# Altium footprint library ArcadeJoystick.PcbLib: 10 footprints
Each footprint in its own frame and in the unit in brackets; x right, y up, seen from the top. Pads: shape width x height; smd on the part's side, far side on the other; paste and mask are expansions set on the pad; w line width, h text height; cw(c..) or ccw(c..) is an arc to the next point about the centre after c.
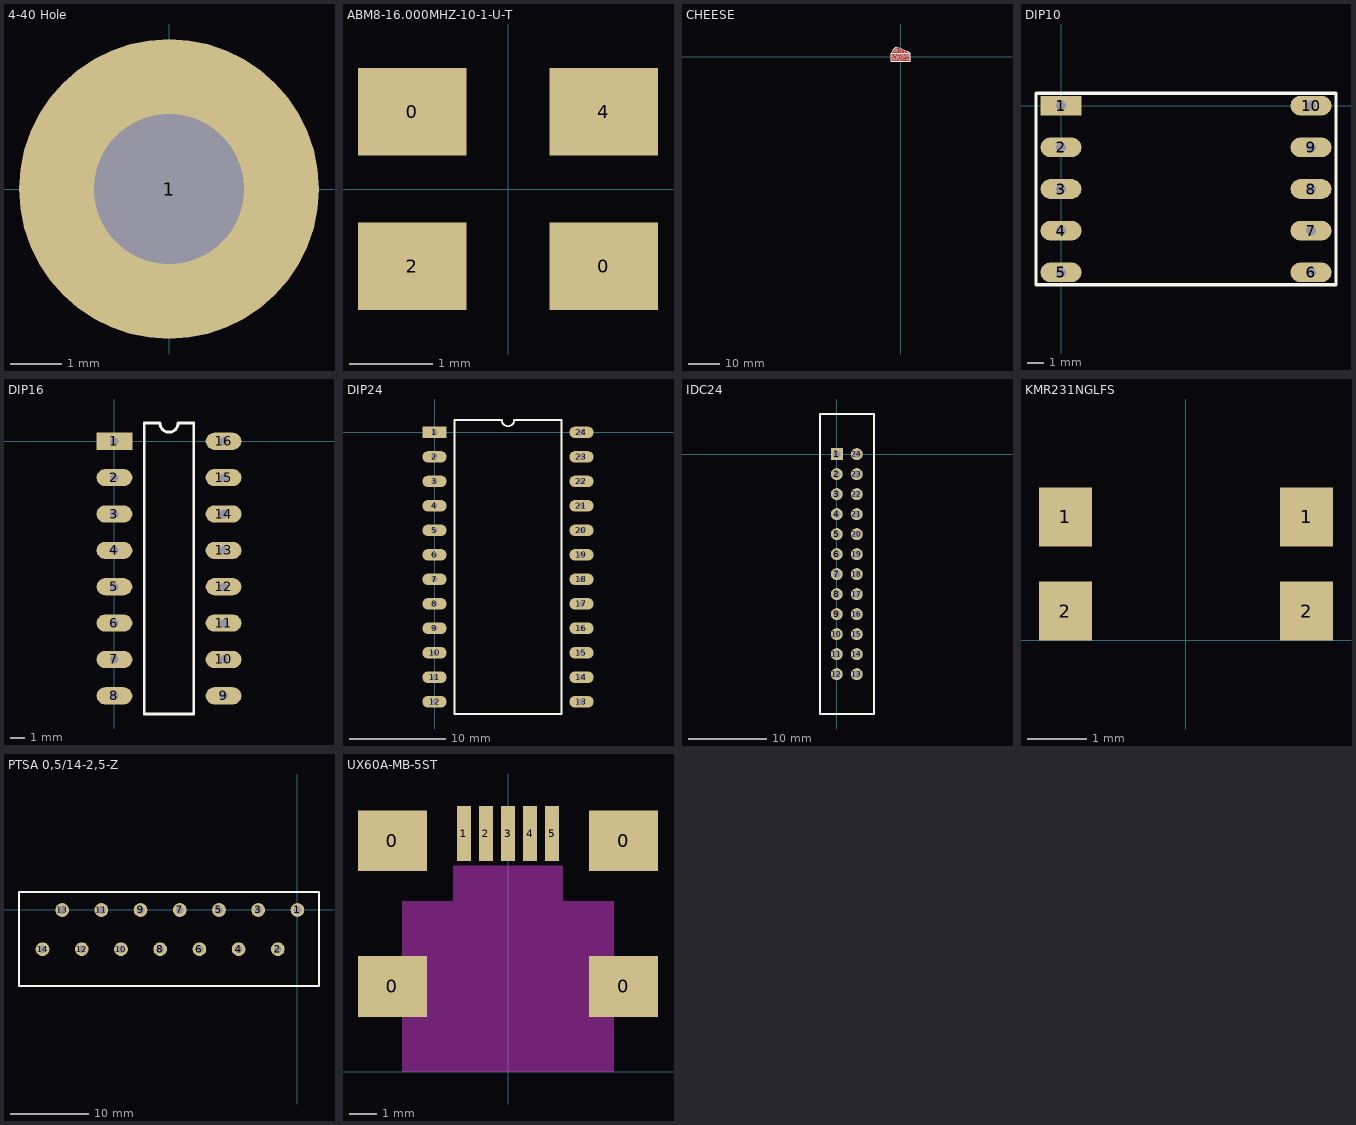
[diagram p0: the footprints below, top view; thin cyan lines are the x and y axes]

## 4-40 Hole [mil]
pads (1):
  round 232 hole 116 unplated: 1(0,0)

## ABM8-16.000MHZ-10-1-U-T [mm]
height 0.8
pads (4):
  rect 1.3x1.05 smd: 0(-1.15,0.925) 0(1.15,-0.925) 2(-1.15,-0.925) 4(1.15,0.925)

## CHEESE [mm]
pads (21):
  round 0.4 hole 0.4: 0(-2.515,0.152) 0(-2.083,1.626) 0(-1.448,-0.94) 0(-0.991,0.635) 0(-0.381,2.108) 0(-0.305,0.61) 0(-0.127,0.025) 0(1.016,-0.914) 0(1.067,-0.279) 0(1.219,1.575)
  round 0.8 hole 0.8: 0(-2.184,-0.66) 0(0.737,0.457)
  round 0.7 hole 0.7: 0(-1.803,0.508) 0(2.134,-0.711)
  round 1 hole 1: 0(-1.295,2.057) 0(-1.016,-0.254) 0(2.362,0.457)
  round 0.5 hole 0.5: 0(-0.279,-0.914) 0(1.524,0.178)
  round 0.6 hole 0.6: 0(0.229,1.702) 0(0.406,-0.533)
Top Layer:
  region: -2.976,1.17 -2.758,1.613 -2.435,2.097 -2.051,2.534 -1.614,2.917 -1.44,3.033 -1.425,3.012 -0.722,2.774 1.221,2.018 3.129,1.179 3.124,1.168
  region: -2.972,-1.372 -2.972,1.168 3.124,1.168 3.124,-1.372
Top Overlay:
  lines w0.254: -1.44,3.033 ccw(c1.092,-0.61) -2.972,1.168 ; -1.425,3.012 cw(c-17.069,-42.139) 3.124,1.168 ; -2.972,1.168 -2.972,-1.372 3.124,-1.372 3.124,1.168 ; -2.972,1.168 3.124,1.168

## DIP10 [mm]
pads (10):
  rect 2.5x1.2 hole 0.6: 1(0,0)
  oval 2.5x1.2 hole 0.6: 2(0,-2.54) 3(0,-5.08) 4(0,-7.62) 5(0,-10.16) 6(15.24,-10.16) 7(15.24,-7.62) 8(15.24,-5.08) 9(15.24,-2.54) 10(15.24,0)
Top Overlay:
  lines w0.2: -1.524,-10.922 16.764,-10.922 16.764,0.762 -1.524,0.762 -1.524,-10.922

## DIP16 [mm]
pads (16):
  rect 2.5x1.2 hole 0.6: 1(0,0)
  oval 2.5x1.2 hole 0.6: 2(0,-2.54) 3(0,-5.08) 4(0,-7.62) 5(0,-10.16) 6(0,-12.7) 7(0,-15.24) 8(0,-17.78) 9(7.62,-17.78) 10(7.62,-15.24) 11(7.62,-12.7) 12(7.62,-10.16) 13(7.62,-7.62) 14(7.62,-5.08) 15(7.62,-2.54) 16(7.62,0)
Top Overlay:
  lines w0.2: 2.085,-19.05 2.085,1.27 3.175,1.27 ccw(c3.81,1.27) 4.445,1.27 5.535,1.27 5.535,-19.05 2.085,-19.05

## DIP24 [mm]
pads (24):
  rect 2.5x1.2 hole 0.6: 1(0,0)
  oval 2.5x1.2 hole 0.6: 2(0,-2.54) 3(0,-5.08) 4(0,-7.62) 5(0,-10.16) 6(0,-12.7) 7(0,-15.24) 8(0,-17.78) 9(0,-20.32) 10(0,-22.86) 11(0,-25.4) 12(0,-27.94) 13(15.24,-27.94) 14(15.24,-25.4) 15(15.24,-22.86) 16(15.24,-20.32) 17(15.24,-17.78) 18(15.24,-15.24) 19(15.24,-12.7) 20(15.24,-10.16) 21(15.24,-7.62) 22(15.24,-5.08) 23(15.24,-2.54) 24(15.24,0)
Top Overlay:
  lines w0.2: 2.085,-29.21 2.085,1.27 6.985,1.27 ccw(c7.62,1.27) 8.255,1.27 13.155,1.27 13.155,-29.21 2.085,-29.21

## IDC24 [mil]
pads (24):
  rect 60x60 hole 36: 1(0,0)
  round 60 hole 36: 2(0,-100) 3(0,-200) 4(0,-300) 5(0,-400) 6(0,-500) 7(0,-600) 8(0,-700) 9(0,-800) 10(0,-900) 11(0,-1000) 12(0,-1100) 13(100,-1100) 14(100,-1000) 15(100,-900) 16(100,-800) 17(100,-700) 18(100,-600) 19(100,-500) 20(100,-400) 21(100,-300) 22(100,-200) 23(100,-100) 24(100,0)
Top Overlay:
  lines w10: -82.68,-1299.21 -82.68,200.79 185.04,200.79 185.04,-1299.21 -82.68,-1299.21

## KMR231NGLFS [mm] "Top Button Switch SMT"
height 1.9
pads (4):
  rect 0.9x1 smd: 1(-2.05,2.1) 1(2.05,2.1) 2(-2.05,0.5) 2(2.05,0.5)
3D body: height 1.9, standoff 0, extent -2,-0.1 2,2.7

## PTSA 0,5/14-2,5-Z [mm] "PCB termination blocks, offset pins, 2.5 mm   pitch,      color: green"
height 13.1
pads (14):
  round 1.75 hole 1: 1(0,0) 2(-2.5,-5) 3(-5,0) 4(-7.5,-5) 5(-10,0) 6(-12.5,-5) 7(-15,0) 8(-17.5,-5) 9(-20,0) 10(-22.5,-5) 11(-25,0) 12(-27.5,-5) 13(-30,0) 14(-32.5,-5)
Top Overlay:
  lines w0.254: -35.5,-9.7 -35.5,2.3 2.75,2.3 2.75,-9.7 -35.5,-9.7

## UX60A-MB-5ST [mm] "USBMiniBSocket"
height 3.95
pads (9):
  rect 2.5x2.2 smd: 0(-4.2,3.1) 0(-4.2,8.4) 0(4.2,3.1) 0(4.2,8.4)
  rect 0.5x2 smd: 1(-1.6,8.65) 2(-0.8,8.65) 3(0,8.65) 4(0.8,8.65) 5(1.6,8.65)
Top Layer keep-out:
  rectangle: -2,5.4 2,7.5
  rectangle: -3.85,4.2 3.85,6.2
  rectangle: -2.95,2 2.95,4.2
  rectangle: -3.85,0 3.85,2